# Altium footprint library Connector.PcbLib: 8 footprints
Each footprint in its own frame and in the unit in brackets; x right, y up, seen from the top. Pads: shape width x height; smd on the part's side, far side on the other; paste and mask are expansions set on the pad; w line width, h text height; cw(c..) or ccw(c..) is an arc to the next point about the centre after c.
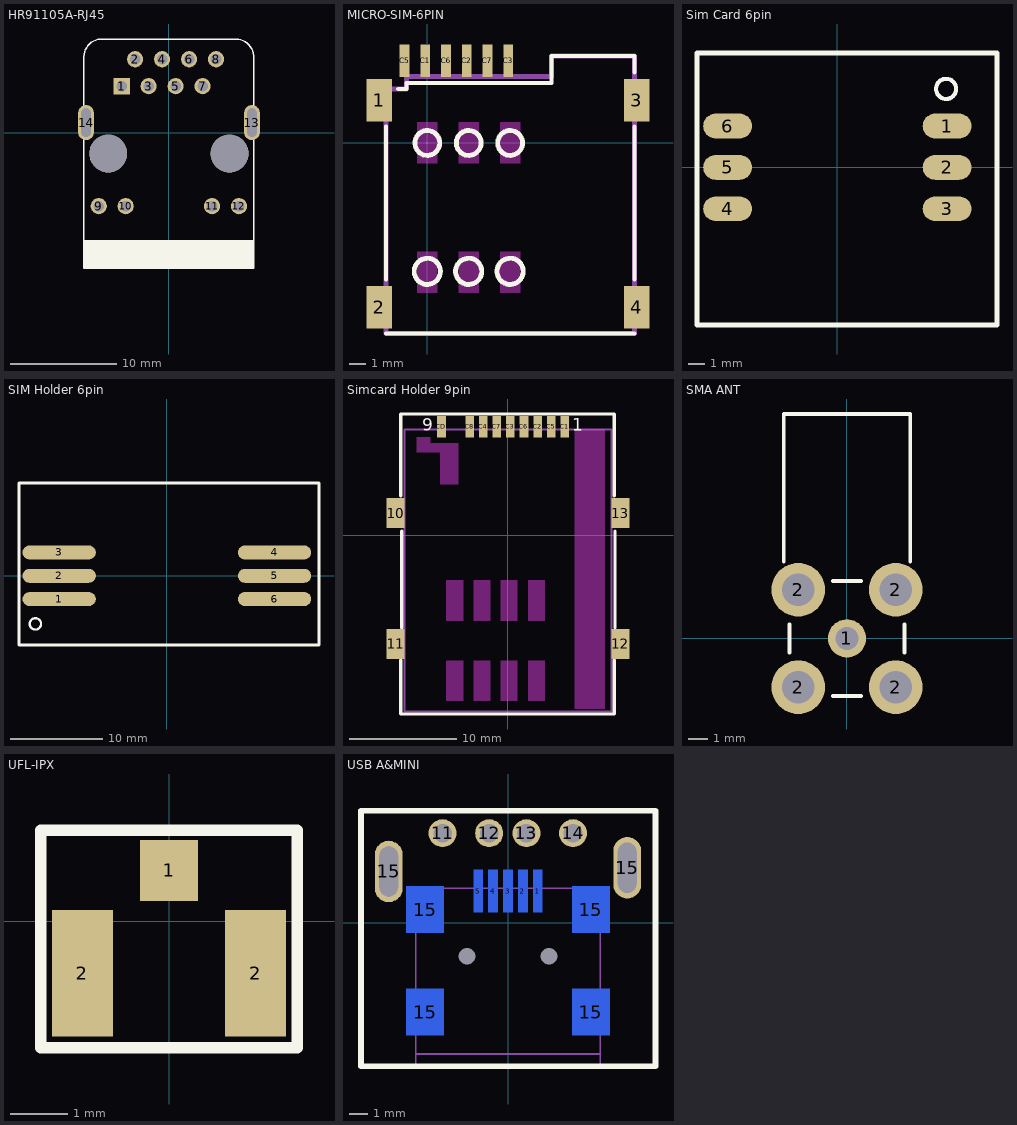
[diagram p0: the footprints below, top view; thin cyan lines are the x and y axes]

## HR91105A-RJ45 [mil]
pads (16):
  rect 60x60 hole 39.37: 1(-175.51,172.5)
  round 60 hole 39.37: 2(-125.51,272.5) 3(-75.51,172.5) 4(-25.51,272.5) 5(24.49,172.5) 6(74.49,272.5) 7(124.49,172.5) 8(174.49,272.5) 9(-260.51,-272.5) 10(-160.51,-272.5) 11(159.49,-272.5) 12(259.49,-272.5)
  oval 59.06x129.92 hole 35.43 slot 106.3 at 90 deg: 13(307.6,37.5) 14(-307.6,37.5)
  round 140 hole 140 unplated: ""(-225.51,-77.5) ""(224.49,-77.5)
Top Overlay:
  region: -315.93,-397.42 -315.93,-502.42 314.07,-502.42 314.07,-397.42
  lines w5: -315.92,282.5 cw(c-248.42,280) -245.92,347.5 ; -315.51,282.91 -315.51,-502.5 314.49,-502.5 314.49,282.09 ; -250.92,347.5 249.08,347.5 cw(c246.58,280) 314.08,277.5
3D body "User Library-HR911105A.STEP": height 551.18, standoff -98.43, extent -313.19,-508.86 312.01,333.66

## MICRO-SIM-6PIN [mm]
pads (10):
  rect 1.55x2.6 smd: 1(-2.95,2.61) 2(-2.95,-10.07) 3(12.85,2.61) 4(12.85,-10.07)
  rect 0.6x2 smd: C1(-0.12,5.035) C2(2.42,5.035) C3(4.96,5.035) C5(-1.39,5.035) C6(1.15,5.035) C7(3.69,5.035)
Top Overlay:
  circle w0.3: c5.08,-7.874 r0.803
  circle w0.3: c2.54,-7.874 r0.803
  circle w0.3: c0,-7.874 r0.803
  circle w0.3: c5.08,0 r0.762
  circle w0.3: c2.54,0 r0.762
  circle w0.3: c0,0 r0.762
  lines w0.254: -2.54,-11.684 12.7,-11.684 ; -2.54,-8.382 -2.54,1.016 ; -1.778,3.302 -1.27,3.302 -1.27,3.683 7.62,3.683 7.62,5.334 12.7,5.334 12.7,4.318 ; 12.7,-8.382 12.7,1.016
Keep-Out Layer:
  rectangle: 4.445,-1.27 5.715,1.27
  rectangle: 1.905,-1.27 3.175,1.27
  rectangle: -0.635,-1.27 0.635,1.27
  rectangle: 4.445,-9.19 5.715,-6.65
  rectangle: 1.905,-9.19 3.175,-6.65
  rectangle: -0.635,-9.19 0.635,-6.65
Mechanical 1:
  lines w0.3: -2.54,-11.684 -2.54,3.302 -1.27,3.302 -1.27,4.064 7.62,4.064 7.62,5.334 12.7,5.334 12.7,-11.684 -2.54,-11.684
3D body "User Library-MICRO 1_35 SIM (CD).STEP": height 1.49, standoff 0.05, extent -3.349,-11.916 13.151,5.294

## Sim Card 6pin [mm]
pads (6):
  oval 3x1.524 smd: 1(6.74,2.54) 2(6.74,0) 3(6.74,-2.54) 4(-6.74,-2.54) 5(-6.74,0) 6(-6.74,2.54)
Top Overlay:
  circle w0.25: c6.68,4.823 r0.619
  lines w0.305: -8.62,-9.677 -8.62,7.023 9.805,7.023 9.805,-9.677 -8.62,-9.677
3D body "User Library-Sim Card Holder.STEP": height 1.8, standoff 0, extent -6.875,-9.55 9.425,6.85

## SIM Holder 6pin [mm]
pads (6):
  oval 8x1.524 smd: 1(-11.74,-2.54) 2(-11.74,0) 3(-11.74,2.54) 4(11.74,2.54) 5(11.74,0) 6(11.74,-2.54)
Top Overlay:
  circle w0.25: c-14.334,-5.24 r0.619
  lines w0.305: -16.115,-7.54 16.585,-7.54 16.585,10.11 -16.115,10.11 -16.115,-7.54
3D body "User Library-SIM holder R5190008-X33(4)-R.STEP": height 2.35, standoff -0.7, extent -14.525,-7.25 15.175,9.95

## Simcard Holder 9pin [mm]
pads (13):
  rect 1.7x2.8 smd: 10(-10.5,2.075) 11(-10.5,-10.125) 12(10.5,-10.125) 13(10.5,2.075)
  rect 0.8x2 smd: C1(5.3,10.125) C2(2.76,10.125) C3(0.22,10.125) C4(-2.32,10.125) C5(4.03,10.125) C6(1.49,10.125) C7(-1.05,10.125) C8(-3.59,10.125) CD(-6.21,10.125)
Top Overlay:
  lines w0.3: -10,-11.625 -10,-16.675 9.925,-16.675 9.925,-11.625 ; -10,3.7 -10,11.325 9.925,11.325 9.925,3.7 ; -9.925,-8.625 -9.925,0.375 ; 10,-8.625 10,0.375
  text "1" at 6,9.325 h2
  text "9" at -8,9.325 h2
Keep-Out Layer:
  rectangle: 6.2,-16.225 9.075,9.875
  rectangle: -5.775,-15.475 -4.175,-11.675
  rectangle: -3.235,-15.475 -1.635,-11.675
  rectangle: -0.695,-15.475 0.905,-11.675
  rectangle: 1.845,-15.475 3.445,-11.675
  rectangle: 1.845,-7.975 3.445,-4.175
  rectangle: -0.695,-7.975 0.905,-4.175
  rectangle: -3.235,-7.975 -1.635,-4.175
  rectangle: -5.775,-7.975 -4.175,-4.175
  region: -8.525,9.175 -7.275,9.175 -7.275,8.575 -4.625,8.575 -4.625,6.675 -4.625,4.775 -6.325,4.775 -6.325,7.775 -8.525,7.775
Mechanical 1:
  lines w0.2: -9.65,-16.425 -9.65,9.875 9.65,9.875 9.65,-16.425 -9.65,-16.425
3D body "User Library-115A-ADA0-R02.STEP": height 1.8, standoff 0, extent -10.425,-16.1 10.525,10.9

## SMA ANT [mm]
pads (5):
  round 2 hole 1.2: 1(0,0)
  round 2.8 hole 1.7: 2(-2.54,-2.54) 2(-2.54,2.54) 2(2.54,-2.54) 2(2.54,2.54)
Top Overlay:
  lines w0.2: -3.3,4 -3.3,11.7 3.3,11.7 3.3,4 ; -3,-0.74 -3,0.74 ; -0.74,-3 0.74,-3 ; -0.74,3 0.74,3 ; 3,-0.74 3,0.74
3D body "User Library-SMA JACK 73100-0115 (MOLEX).STEP": height 9.58, standoff -3.93, extent -3.175,-3.175 3.175,11.625

## UFL-IPX [mm]
pads (3):
  rect 1x1.05 smd: 1(0,0.881)
  rect 1.05x2.2 smd: 2(-1.5,-0.9) 2(1.5,-0.9)
Top Overlay:
  lines w0.2: -2.225,-2.194 -2.225,1.581 2.225,1.581 2.225,-2.194 -2.225,-2.194
3D body "SW3dPS-UFL-R-SMD.STEP": height 1.25, standoff 0, extent -1.65,-2.319 1.45,1.081

## USB A&MINI [mm]
pads (17):
  rect 0.5x2.3 smd far side: 1(1.6,1.698) 2(0.8,1.698) 3(0,1.698) 4(-0.8,1.698) 5(-1.6,1.698)
  round 1.5 hole 1: 11(-3.512,4.802) 12(-1.012,4.802) 13(0.988,4.802) 14(3.488,4.802)
  oval 1.5x3.3 hole 1 slot 2.7 at 90 deg: 15(-6.4,2.748) 15(6.4,2.948)
  rect 2x2.5 smd far side: 15(-4.45,-4.802) 15(-4.45,0.698) 15(4.45,-4.802) 15(4.45,0.698)
  round 0.6 hole 0.9 unplated: MH1(-2.2,-1.802) MH2(2.2,-1.802)
Top Overlay:
  lines w0.305: -7.887,-7.698 -7.887,6.002 7.913,6.002 7.913,-7.698 -7.887,-7.698
Bottom Overlay:
  circle w0.25: c2.5,2.448 r0.125
  lines w0.2: -4.95,-6.452 -4.95,-7.752 4.95,-7.752 4.95,-6.452 ; -3.05,1.848 -2.25,1.848 ; 2.25,1.848 3.05,1.848
  lines w0.25: -4.95,-3.152 -4.95,-0.952 ; 4.95,-3.152 4.95,-0.952
Mechanical 1:
  lines w0.1: -4.95,-7.052 4.95,-7.052
  text "PCB Edge" at 4.036,-7.484 h0.25
Mechanical 13:
  lines w0.1: -4.95,-7.752 -4.95,1.848 4.95,1.848 4.95,-7.752 -4.95,-7.752
3D body "usb_a-usb_b-m5-smd-c.STEP": height 3.93, standoff -1, extent -4.95,-7.702 4.95,1.548
3D body "SW3dPS-USB-A-01.STEP": height 6.95, standoff -4.2, extent -7.887,-7.698 7.914,6.002